# Altium footprint library QFN50P200X200X65-13N-D.PcbLib: 1 footprints
Each footprint in its own frame and in the unit in brackets; x right, y up, seen from the top. Pads: shape width x height; smd on the part's side, far side on the other; paste and mask are expansions set on the pad; w line width, h text height; cw(c..) or ccw(c..) is an arc to the next point about the centre after c.
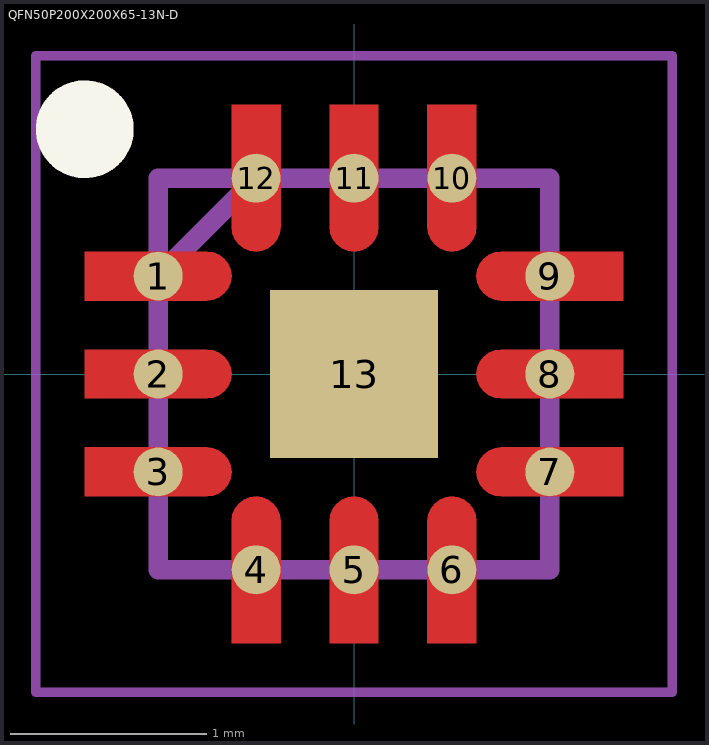
[diagram p0: the footprint, top view; thin cyan lines are the x and y axes]

## QFN50P200X200X65-13N-D [mm]
pads (13):
  round 0.25 smd: 1(-1,0.5) 2(-1,0) 3(-1,-0.5) 4(-0.5,-1) 5(0,-1) 6(0.5,-1) 7(1,-0.5) 8(1,0) 9(1,0.5) 10(0.5,1) 11(0,1) 12(-0.5,1)
  rect 0.86x0.86 smd: 13(0,0)
L1-Top Layer:
  region: -1.375,0.625 -0.75,0.625 -0.718,0.621 -0.687,0.608 -0.662,0.588 -0.642,0.562 -0.629,0.532 -0.625,0.5 -0.629,0.468 -0.642,0.437 -0.662,0.412 -0.687,0.392 -0.718,0.379 -0.75,0.375 -1.375,0.375
  region: -1.375,0.125 -0.75,0.125 -0.718,0.121 -0.687,0.108 -0.662,0.088 -0.642,0.062 -0.629,0.032 -0.625,0 -0.629,-0.032 -0.642,-0.062 -0.662,-0.088 -0.687,-0.108 -0.718,-0.121 -0.75,-0.125 -1.375,-0.125
  region: -1.375,-0.375 -0.75,-0.375 -0.718,-0.379 -0.687,-0.392 -0.662,-0.412 -0.642,-0.437 -0.629,-0.468 -0.625,-0.5 -0.629,-0.532 -0.642,-0.562 -0.662,-0.588 -0.687,-0.608 -0.718,-0.621 -0.75,-0.625 -1.375,-0.625
  region: -0.625,-1.375 -0.625,-0.75 -0.621,-0.718 -0.608,-0.687 -0.588,-0.662 -0.562,-0.642 -0.532,-0.629 -0.5,-0.625 -0.468,-0.629 -0.437,-0.642 -0.412,-0.662 -0.392,-0.687 -0.379,-0.718 -0.375,-0.75 -0.375,-1.375
  region: -0.125,-1.375 -0.125,-0.75 -0.121,-0.718 -0.108,-0.687 -0.088,-0.662 -0.062,-0.642 -0.032,-0.629 0,-0.625 0.032,-0.629 0.062,-0.642 0.088,-0.662 0.108,-0.687 0.121,-0.718 0.125,-0.75 0.125,-1.375
  region: 0.375,-1.375 0.375,-0.75 0.379,-0.718 0.392,-0.687 0.412,-0.662 0.437,-0.642 0.468,-0.629 0.5,-0.625 0.532,-0.629 0.562,-0.642 0.588,-0.662 0.608,-0.687 0.621,-0.718 0.625,-0.75 0.625,-1.375
  region: 1.375,-0.625 0.75,-0.625 0.718,-0.621 0.687,-0.608 0.662,-0.588 0.642,-0.562 0.629,-0.532 0.625,-0.5 0.629,-0.468 0.642,-0.437 0.662,-0.412 0.687,-0.392 0.718,-0.379 0.75,-0.375 1.375,-0.375
  region: 1.375,-0.125 0.75,-0.125 0.718,-0.121 0.687,-0.108 0.662,-0.088 0.642,-0.062 0.629,-0.032 0.625,0 0.629,0.032 0.642,0.062 0.662,0.088 0.687,0.108 0.718,0.121 0.75,0.125 1.375,0.125
  region: 1.375,0.375 0.75,0.375 0.718,0.379 0.687,0.392 0.662,0.412 0.642,0.437 0.629,0.468 0.625,0.5 0.629,0.532 0.642,0.562 0.662,0.588 0.687,0.608 0.718,0.621 0.75,0.625 1.375,0.625
  region: 0.625,1.375 0.625,0.75 0.621,0.718 0.608,0.687 0.588,0.662 0.562,0.642 0.532,0.629 0.5,0.625 0.468,0.629 0.437,0.642 0.412,0.662 0.392,0.687 0.379,0.718 0.375,0.75 0.375,1.375
  region: 0.125,1.375 0.125,0.75 0.121,0.718 0.108,0.687 0.088,0.662 0.062,0.642 0.032,0.629 0,0.625 -0.032,0.629 -0.062,0.642 -0.088,0.662 -0.108,0.687 -0.121,0.718 -0.125,0.75 -0.125,1.375
  region: -0.375,1.375 -0.375,0.75 -0.379,0.718 -0.392,0.687 -0.412,0.662 -0.437,0.642 -0.468,0.629 -0.5,0.625 -0.532,0.629 -0.562,0.642 -0.588,0.662 -0.608,0.687 -0.621,0.718 -0.625,0.75 -0.625,1.375
Top Overlay:
  circle w0.25: c-1.375,1.25 r0.125
Mechanical 15:
  lines w0.1: -1,0.5 -0.5,1 ; -1,-1 1,-1 1,1 -1,1 -1,-1
Mechanical 20:
  lines w0.05: -1.625,-1.625 1.625,-1.625 1.625,1.625 -1.625,1.625 -1.625,-1.625